# Altium integrated library WE-LHMI SMD Power Inductor.IntLib: 79 symbols
Pins are listed as number, name and electrical type; pins without a type are passive.

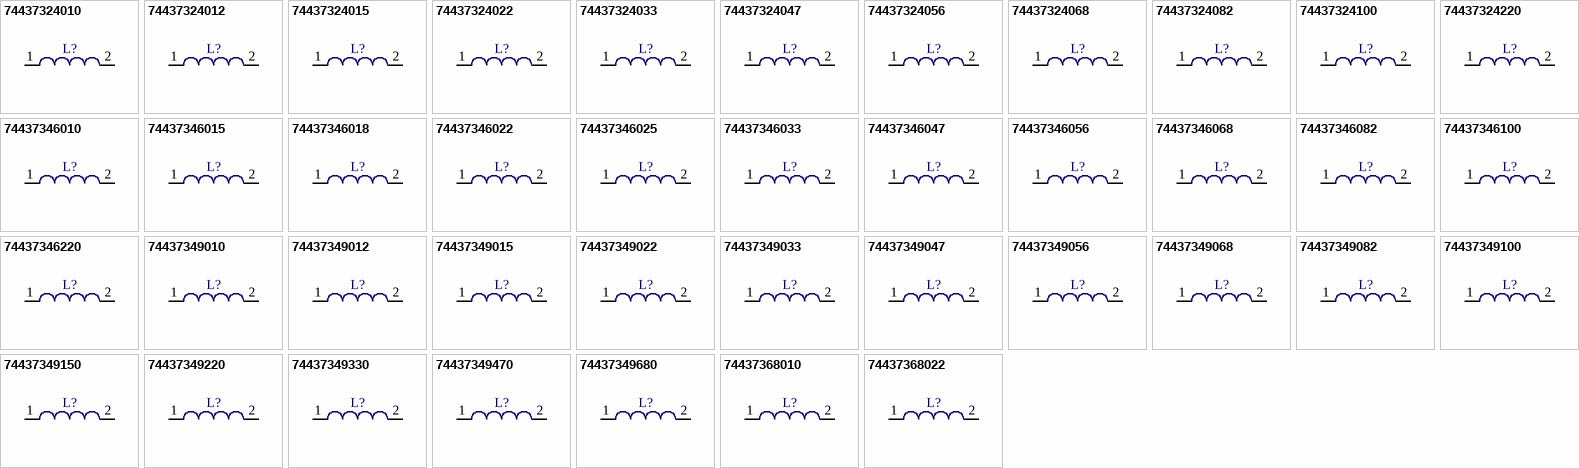
[diagram p0: symbols 74437324010 to 74437368022]

## 74437324010
designator L?
SMD Power Inductor WE-LHMI, L=1.0 µH; PartNumber: 74437324010; Inductance: 1.0 µH; PackageReference: WE-LHMI 4020; ComponentLink1Description: Manufacturer URL; ComponentLink1URL: http://www.we-online.com; ComponentLink2Description: Datasheet; ComponentLink2URL: http://katalog.we-online.de/kataloge/eisos/media/pdf/74437324010.pdf
footprint WE-LHMI 4020 (SMD Inductor, 2-Leads, Body 4.45 x 4.06mm)
pins: 1, 2

## 74437324012
designator L?
SMD Power Inductor WE-LHMI, L=1.2 µH; PartNumber: 74437324012; Inductance: 1.2 µH; PackageReference: WE-LHMI 4020; ComponentLink1Description: Manufacturer URL; ComponentLink1URL: http://www.we-online.com; ComponentLink2Description: Datasheet; ComponentLink2URL: http://katalog.we-online.de/kataloge/eisos/media/pdf/74437324012.pdf
footprint WE-LHMI 4020 (SMD Inductor, 2-Leads, Body 4.45 x 4.06mm)
pins: 1, 2

## 74437324015
designator L?
SMD Power Inductor WE-LHMI, L=1.5 µH; PartNumber: 74437324015; Inductance: 1.5 µH; PackageReference: WE-LHMI 4020; ComponentLink1Description: Manufacturer URL; ComponentLink1URL: http://www.we-online.com; ComponentLink2Description: Datasheet; ComponentLink2URL: http://katalog.we-online.de/kataloge/eisos/media/pdf/74437324015.pdf
footprint WE-LHMI 4020 (SMD Inductor, 2-Leads, Body 4.45 x 4.06mm)
pins: 1, 2

## 74437324022
designator L?
SMD Power Inductor WE-LHMI, L=2.2 µH; PartNumber: 74437324022; Inductance: 2.2 µH; PackageReference: WE-LHMI 4020; ComponentLink1Description: Manufacturer URL; ComponentLink1URL: http://www.we-online.com; ComponentLink2Description: Datasheet; ComponentLink2URL: http://katalog.we-online.de/kataloge/eisos/media/pdf/74437324022.pdf
footprint WE-LHMI 4020 (SMD Inductor, 2-Leads, Body 4.45 x 4.06mm)
pins: 1, 2

## 74437324033
designator L?
SMD Power Inductor WE-LHMI, L=3.3 µH; PartNumber: 74437324033; Inductance: 3.3 µH; PackageReference: WE-LHMI 4020; ComponentLink1Description: Manufacturer URL; ComponentLink1URL: http://www.we-online.com; ComponentLink2Description: Datasheet; ComponentLink2URL: http://katalog.we-online.de/kataloge/eisos/media/pdf/74437324033.pdf
footprint WE-LHMI 4020 (SMD Inductor, 2-Leads, Body 4.45 x 4.06mm)
pins: 1, 2

## 74437324047
designator L?
SMD Power Inductor WE-LHMI, L=4.7 µH; PartNumber: 74437324047; Inductance: 4.7 µH; PackageReference: WE-LHMI 4020; ComponentLink1Description: Manufacturer URL; ComponentLink1URL: http://www.we-online.com; ComponentLink2Description: Datasheet; ComponentLink2URL: http://katalog.we-online.de/kataloge/eisos/media/pdf/74437324047.pdf
footprint WE-LHMI 4020 (SMD Inductor, 2-Leads, Body 4.45 x 4.06mm)
pins: 1, 2

## 74437324056
designator L?
SMD Power Inductor WE-LHMI, L=5.6 µH; PartNumber: 74437324056; Inductance: 5.6 µH; PackageReference: WE-LHMI 4020; ComponentLink1Description: Manufacturer URL; ComponentLink1URL: http://www.we-online.com; ComponentLink2Description: Datasheet; ComponentLink2URL: http://katalog.we-online.de/kataloge/eisos/media/pdf/74437324056.pdf
footprint WE-LHMI 4020 (SMD Inductor, 2-Leads, Body 4.45 x 4.06mm)
pins: 1, 2

## 74437324068
designator L?
SMD Power Inductor WE-LHMI, L=6.8 µH; PartNumber: 74437324068; Inductance: 6.8 µH; PackageReference: WE-LHMI 4020; ComponentLink1Description: Manufacturer URL; ComponentLink1URL: http://www.we-online.com; ComponentLink2Description: Datasheet; ComponentLink2URL: http://katalog.we-online.de/kataloge/eisos/media/pdf/74437324068.pdf
footprint WE-LHMI 4020 (SMD Inductor, 2-Leads, Body 4.45 x 4.06mm)
pins: 1, 2

## 74437324082
designator L?
SMD Power Inductor WE-LHMI, L=8.2 µH; PartNumber: 74437324082; Inductance: 8.2 µH; PackageReference: WE-LHMI 4020; ComponentLink1Description: Manufacturer URL; ComponentLink1URL: http://www.we-online.com; ComponentLink2Description: Datasheet; ComponentLink2URL: http://katalog.we-online.de/kataloge/eisos/media/pdf/74437324082.pdf
footprint WE-LHMI 4020 (SMD Inductor, 2-Leads, Body 4.45 x 4.06mm)
pins: 1, 2

## 74437324100
designator L?
SMD Power Inductor WE-LHMI, L=10 µH; PartNumber: 74437324100; Inductance: 10 µH; PackageReference: WE-LHMI 4020; ComponentLink1Description: Manufacturer URL; ComponentLink1URL: http://www.we-online.com; ComponentLink2Description: Datasheet; ComponentLink2URL: http://katalog.we-online.de/kataloge/eisos/media/pdf/74437324100.pdf
footprint WE-LHMI 4020 (SMD Inductor, 2-Leads, Body 4.45 x 4.06mm)
pins: 1, 2

## 74437324220
designator L?
SMD Power Inductor WE-LHMI, L=22 µH; PartNumber: 74437324220; Inductance: 22 µH; PackageReference: WE-LHMI 4020; ComponentLink1Description: Manufacturer URL; ComponentLink1URL: http://www.we-online.com; ComponentLink2Description: Datasheet; ComponentLink2URL: http://katalog.we-online.de/kataloge/eisos/media/pdf/74437324220.pdf
footprint WE-LHMI 4020 (SMD Inductor, 2-Leads, Body 4.45 x 4.06mm)
pins: 1, 2

## 74437346010
designator L?
SMD Power Inductor WE-LHMI, L=1.0 µH; PartNumber: 74437346010; Inductance: 1.0 µH; PackageReference: WE-LHMI 7030; ComponentLink1Description: Manufacturer URL; ComponentLink1URL: http://www.we-online.com; ComponentLink2Description: Datasheet; ComponentLink2URL: http://katalog.we-online.de/kataloge/eisos/media/pdf/74437346010.pdf
footprint WE-LHMI 7030 (SMD Inductor, 2-Leads, Body 7.3 x 6.6mm)
pins: 1, 2

## 74437346015
designator L?
SMD Power Inductor WE-LHMI, L=1.5 µH; PartNumber: 74437346015; Inductance: 1.5 µH; PackageReference: WE-LHMI 7030; ComponentLink1Description: Manufacturer URL; ComponentLink1URL: http://www.we-online.com; ComponentLink2Description: Datasheet; ComponentLink2URL: http://katalog.we-online.de/kataloge/eisos/media/pdf/74437346015.pdf
footprint WE-LHMI 7030 (SMD Inductor, 2-Leads, Body 7.3 x 6.6mm)
pins: 1, 2

## 74437346018
designator L?
SMD Power Inductor WE-LHMI, L=1.8 µH; PartNumber: 74437346018; Inductance: 1.8 µH; PackageReference: WE-LHMI 7030; ComponentLink1Description: Manufacturer URL; ComponentLink1URL: http://www.we-online.com; ComponentLink2Description: Datasheet; ComponentLink2URL: http://katalog.we-online.de/kataloge/eisos/media/pdf/74437346018.pdf
footprint WE-LHMI 7030 (SMD Inductor, 2-Leads, Body 7.3 x 6.6mm)
pins: 1, 2

## 74437346022
designator L?
SMD Power Inductor WE-LHMI, L=2.2 µH; PartNumber: 74437346022; Inductance: 2.2 µH; PackageReference: WE-LHMI 7030; ComponentLink1Description: Manufacturer URL; ComponentLink1URL: http://www.we-online.com; ComponentLink2Description: Datasheet; ComponentLink2URL: http://katalog.we-online.de/kataloge/eisos/media/pdf/74437346022.pdf
footprint WE-LHMI 7030 (SMD Inductor, 2-Leads, Body 7.3 x 6.6mm)
pins: 1, 2

## 74437346025
designator L?
SMD Power Inductor WE-LHMI, L=2.5 µH; PartNumber: 74437346025; Inductance: 2.5 µH; PackageReference: WE-LHMI 7030; ComponentLink1Description: Manufacturer URL; ComponentLink1URL: http://www.we-online.com; ComponentLink2Description: Datasheet; ComponentLink2URL: http://katalog.we-online.de/kataloge/eisos/media/pdf/74437346025.pdf
footprint WE-LHMI 7030 (SMD Inductor, 2-Leads, Body 7.3 x 6.6mm)
pins: 1, 2

## 74437346033
designator L?
SMD Power Inductor WE-LHMI, L=3.3 µH; PartNumber: 74437346033; Inductance: 3.3 µH; PackageReference: WE-LHMI 7030; ComponentLink1Description: Manufacturer URL; ComponentLink1URL: http://www.we-online.com; ComponentLink2Description: Datasheet; ComponentLink2URL: http://katalog.we-online.de/kataloge/eisos/media/pdf/74437346033.pdf
footprint WE-LHMI 7030 (SMD Inductor, 2-Leads, Body 7.3 x 6.6mm)
pins: 1, 2

## 74437346047
designator L?
SMD Power Inductor WE-LHMI, L=4.7 µH; PartNumber: 74437346047; Inductance: 3.3 µH; PackageReference: WE-LHMI 7030; ComponentLink1Description: Manufacturer URL; ComponentLink1URL: http://www.we-online.com; ComponentLink2Description: Datasheet; ComponentLink2URL: http://katalog.we-online.de/kataloge/eisos/media/pdf/74437346047.pdf
footprint WE-LHMI 7030 (SMD Inductor, 2-Leads, Body 7.3 x 6.6mm)
pins: 1, 2

## 74437346056
designator L?
SMD Power Inductor WE-LHMI, L=5.6 µH; PartNumber: 74437346056; Inductance: 5.6 µH; PackageReference: WE-LHMI 7030; ComponentLink1Description: Manufacturer URL; ComponentLink1URL: http://www.we-online.com; ComponentLink2Description: Datasheet; ComponentLink2URL: http://katalog.we-online.de/kataloge/eisos/media/pdf/74437346056.pdf
footprint WE-LHMI 7030 (SMD Inductor, 2-Leads, Body 7.3 x 6.6mm)
pins: 1, 2

## 74437346068
designator L?
SMD Power Inductor WE-LHMI, L=6.8 µH; PartNumber: 74437346068; Inductance: 6.8 µH; PackageReference: WE-LHMI 7030; ComponentLink1Description: Manufacturer URL; ComponentLink1URL: http://www.we-online.com; ComponentLink2Description: Datasheet; ComponentLink2URL: http://katalog.we-online.de/kataloge/eisos/media/pdf/74437346068.pdf
footprint WE-LHMI 7030 (SMD Inductor, 2-Leads, Body 7.3 x 6.6mm)
pins: 1, 2

## 74437346082
designator L?
SMD Power Inductor WE-LHMI, L=8.2 µH; PartNumber: 74437346082; Inductance: 8.2 µH; PackageReference: WE-LHMI 7030; ComponentLink1Description: Manufacturer URL; ComponentLink1URL: http://www.we-online.com; ComponentLink2Description: Datasheet; ComponentLink2URL: http://katalog.we-online.de/kataloge/eisos/media/pdf/74437346082.pdf
footprint WE-LHMI 7030 (SMD Inductor, 2-Leads, Body 7.3 x 6.6mm)
pins: 1, 2

## 74437346100
designator L?
SMD Power Inductor WE-LHMI, L=10 µH; PartNumber: 74437346100; Inductance: 10 µH; PackageReference: WE-LHMI 7030; ComponentLink1Description: Manufacturer URL; ComponentLink1URL: http://www.we-online.com; ComponentLink2Description: Datasheet; ComponentLink2URL: http://katalog.we-online.de/kataloge/eisos/media/pdf/74437346100.pdf
footprint WE-LHMI 7030 (SMD Inductor, 2-Leads, Body 7.3 x 6.6mm)
pins: 1, 2

## 74437346220
designator L?
SMD Power Inductor WE-LHMI, L=22 µH; PartNumber: 74437346220; Inductance: 22 µH; PackageReference: WE-LHMI 7030; ComponentLink1Description: Manufacturer URL; ComponentLink1URL: http://www.we-online.com; ComponentLink2Description: Datasheet; ComponentLink2URL: http://katalog.we-online.de/kataloge/eisos/media/pdf/74437346220.pdf
footprint WE-LHMI 7030 (SMD Inductor, 2-Leads, Body 7.3 x 6.6mm)
pins: 1, 2

## 74437349010
designator L?
SMD Power Inductor WE-LHMI, L=1.0 µH; PartNumber: 74437349010; Inductance: 1.0 µH; PackageReference: WE-LHMI 7050; ComponentLink1Description: Manufacturer URL; ComponentLink1URL: http://www.we-online.com; ComponentLink2Description: Datasheet; ComponentLink2URL: http://katalog.we-online.de/kataloge/eisos/media/pdf/74437349010.pdf
footprint WE-LHMI 7050 (SMD Inductor, 2-Leads, Body 7.3 x 6.6mm)
pins: 1, 2

## 74437349012
designator L?
SMD Power Inductor WE-LHMI, L=1.2 µH; PartNumber: 74437349012; Inductance: 1.2 µH; PackageReference: WE-LHMI 7050; ComponentLink1Description: Manufacturer URL; ComponentLink1URL: http://www.we-online.com; ComponentLink2Description: Datasheet; ComponentLink2URL: http://katalog.we-online.de/kataloge/eisos/media/pdf/74437349012.pdf
footprint WE-LHMI 7050 (SMD Inductor, 2-Leads, Body 7.3 x 6.6mm)
pins: 1, 2

## 74437349015
designator L?
SMD Power Inductor WE-LHMI, L=1.5 µH; PartNumber: 74437349015; Inductance: 1.5 µH; PackageReference: WE-LHMI 7050; ComponentLink1Description: Manufacturer URL; ComponentLink1URL: http://www.we-online.com; ComponentLink2Description: Datasheet; ComponentLink2URL: http://katalog.we-online.de/kataloge/eisos/media/pdf/74437349015.pdf
footprint WE-LHMI 7050 (SMD Inductor, 2-Leads, Body 7.3 x 6.6mm)
pins: 1, 2

## 74437349022
designator L?
SMD Power Inductor WE-LHMI, L=2.2 µH; PartNumber: 74437349022; Inductance: 2.2 µH; PackageReference: WE-LHMI 7050; ComponentLink1Description: Manufacturer URL; ComponentLink1URL: http://www.we-online.com; ComponentLink2Description: Datasheet; ComponentLink2URL: http://katalog.we-online.de/kataloge/eisos/media/pdf/74437349022.pdf
footprint WE-LHMI 7050 (SMD Inductor, 2-Leads, Body 7.3 x 6.6mm)
pins: 1, 2

## 74437349033
designator L?
SMD Power Inductor WE-LHMI, L=3.3 µH; PartNumber: 74437349033; Inductance: 3.3 µH; PackageReference: WE-LHMI 7050; ComponentLink1Description: Manufacturer URL; ComponentLink1URL: http://www.we-online.com; ComponentLink2Description: Datasheet; ComponentLink2URL: http://katalog.we-online.de/kataloge/eisos/media/pdf/74437349033.pdf
footprint WE-LHMI 7050 (SMD Inductor, 2-Leads, Body 7.3 x 6.6mm)
pins: 1, 2

## 74437349047
designator L?
SMD Power Inductor WE-LHMI, L=4.7 µH; PartNumber: 74437349047; Inductance: 4.7 µH; PackageReference: WE-LHMI 7050; ComponentLink1Description: Manufacturer URL; ComponentLink1URL: http://www.we-online.com; ComponentLink2Description: Datasheet; ComponentLink2URL: http://katalog.we-online.de/kataloge/eisos/media/pdf/74437349047.pdf
footprint WE-LHMI 7050 (SMD Inductor, 2-Leads, Body 7.3 x 6.6mm)
pins: 1, 2

## 74437349056
designator L?
SMD Power Inductor WE-LHMI, L=5.6 µH; PartNumber: 74437349056; Inductance: 5.6 µH; PackageReference: WE-LHMI 7050; ComponentLink1Description: Manufacturer URL; ComponentLink1URL: http://www.we-online.com; ComponentLink2Description: Datasheet; ComponentLink2URL: http://katalog.we-online.de/kataloge/eisos/media/pdf/74437349056.pdf
footprint WE-LHMI 7050 (SMD Inductor, 2-Leads, Body 7.3 x 6.6mm)
pins: 1, 2

## 74437349068
designator L?
SMD Power Inductor WE-LHMI, L=6.8 µH; PartNumber: 74437349068; Inductance: 6.8 µH; PackageReference: WE-LHMI 7050; ComponentLink1Description: Manufacturer URL; ComponentLink1URL: http://www.we-online.com; ComponentLink2Description: Datasheet; ComponentLink2URL: http://katalog.we-online.de/kataloge/eisos/media/pdf/74437349068.pdf
footprint WE-LHMI 7050 (SMD Inductor, 2-Leads, Body 7.3 x 6.6mm)
pins: 1, 2

## 74437349082
designator L?
SMD Power Inductor WE-LHMI, L=8.2 µH; PartNumber: 74437349082; Inductance: 8.2 µH; PackageReference: WE-LHMI 7050; ComponentLink1Description: Manufacturer URL; ComponentLink1URL: http://www.we-online.com; ComponentLink2Description: Datasheet; ComponentLink2URL: http://katalog.we-online.de/kataloge/eisos/media/pdf/74437349082.pdf
footprint WE-LHMI 7050 (SMD Inductor, 2-Leads, Body 7.3 x 6.6mm)
pins: 1, 2

## 74437349100
designator L?
SMD Power Inductor WE-LHMI, L=10 µH; PartNumber: 74437349100; Inductance: 10 µH; PackageReference: WE-LHMI 7050; ComponentLink1Description: Manufacturer URL; ComponentLink1URL: http://www.we-online.com; ComponentLink2Description: Datasheet; ComponentLink2URL: http://katalog.we-online.de/kataloge/eisos/media/pdf/74437349100.pdf
footprint WE-LHMI 7050 (SMD Inductor, 2-Leads, Body 7.3 x 6.6mm)
pins: 1, 2

## 74437349150
designator L?
SMD Power Inductor WE-LHMI, L=15 µH; PartNumber: 74437349150; Inductance: 15 µH; PackageReference: WE-LHMI 7050; ComponentLink1Description: Manufacturer URL; ComponentLink1URL: http://www.we-online.com; ComponentLink2Description: Datasheet; ComponentLink2URL: http://katalog.we-online.de/kataloge/eisos/media/pdf/74437349150.pdf
footprint WE-LHMI 7050 (SMD Inductor, 2-Leads, Body 7.3 x 6.6mm)
pins: 1, 2

## 74437349220
designator L?
SMD Power Inductor WE-LHMI, L=22 µH; PartNumber: 74437349220; Inductance: 22 µH; PackageReference: WE-LHMI 7050; ComponentLink1Description: Manufacturer URL; ComponentLink1URL: http://www.we-online.com; ComponentLink2Description: Datasheet; ComponentLink2URL: http://katalog.we-online.de/kataloge/eisos/media/pdf/74437349220.pdf
footprint WE-LHMI 7050 (SMD Inductor, 2-Leads, Body 7.3 x 6.6mm)
pins: 1, 2

## 74437349330
designator L?
SMD Power Inductor WE-LHMI, L=33.0 µH; PartNumber: 74437349330; Inductance: 33.0 µH; PackageReference: WE-LHMI 7050; ComponentLink1Description: Manufacturer URL; ComponentLink1URL: http://www.we-online.com; ComponentLink2Description: Datasheet; ComponentLink2URL: http://katalog.we-online.de/kataloge/eisos/media/pdf/74437349330.pdf
footprint WE-LHMI 7050 (SMD Inductor, 2-Leads, Body 7.3 x 6.6mm)
pins: 1, 2

## 74437349470
designator L?
SMD Power Inductor WE-LHMI, L=47.0 µH; PartNumber: 74437349470; Inductance: 47.0 µH; PackageReference: WE-LHMI 7050; ComponentLink1Description: Manufacturer URL; ComponentLink1URL: http://www.we-online.com; ComponentLink2Description: Datasheet; ComponentLink2URL: http://katalog.we-online.de/kataloge/eisos/media/pdf/74437349470.pdf
footprint WE-LHMI 7050 (SMD Inductor, 2-Leads, Body 7.3 x 6.6mm)
pins: 1, 2

## 74437349680
designator L?
SMD Power Inductor WE-LHMI, L=68.0 µH; PartNumber: 74437349680; Inductance: 68.0 µH; PackageReference: WE-LHMI 7050; ComponentLink1Description: Manufacturer URL; ComponentLink1URL: http://www.we-online.com; ComponentLink2Description: Datasheet; ComponentLink2URL: http://katalog.we-online.de/kataloge/eisos/media/pdf/74437349680.pdf
footprint WE-LHMI 7050 (SMD Inductor, 2-Leads, Body 7.3 x 6.6mm)
pins: 1, 2

## 74437368010
designator L?
SMD Power Inductor WE-LHMI, L=1.0 µH; PartNumber: 74437368010; Inductance: 1.0 µH; PackageReference: WE-LHMI 1040; ComponentLink1Description: Manufacturer URL; ComponentLink1URL: http://www.we-online.com; ComponentLink2Description: Datasheet; ComponentLink2URL: http://katalog.we-online.de/kataloge/eisos/media/pdf/74437368010.pdf
footprint WE-LHMI 1040 (SMD Inductor, 2-Leads, Body 11 x 10mm)
pins: 1, 2

## 74437368022
designator L?
SMD Power Inductor WE-LHMI, L=2.2 µH; PartNumber: 74437368022; Inductance: 2.2 µH; PackageReference: WE-LHMI 1040; ComponentLink1Description: Manufacturer URL; ComponentLink1URL: http://www.we-online.com; ComponentLink2Description: Datasheet; ComponentLink2URL: http://katalog.we-online.de/kataloge/eisos/media/pdf/74437368022.pdf
footprint WE-LHMI 1040 (SMD Inductor, 2-Leads, Body 11 x 10mm)
pins: 1, 2

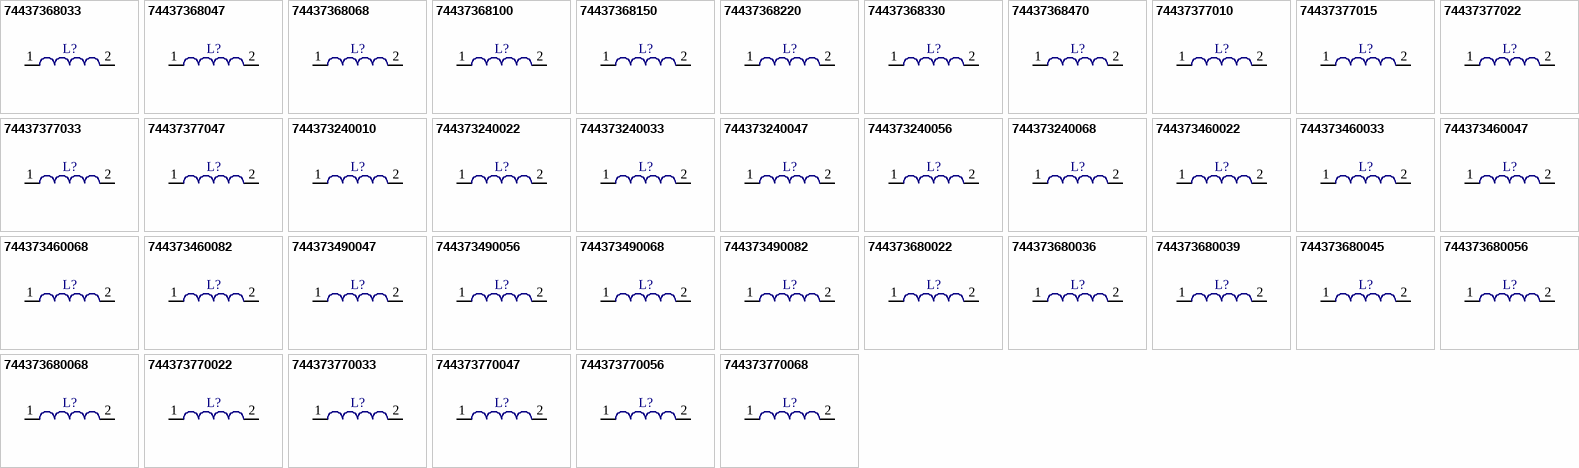
[diagram p1: symbols 74437368033 to 744373770068]

## 74437368033
designator L?
SMD Power Inductor WE-LHMI, L=3.3 µH; PartNumber: 74437368033; Inductance: 3.3 µH; PackageReference: WE-LHMI 1040; ComponentLink1Description: Manufacturer URL; ComponentLink1URL: http://www.we-online.com; ComponentLink2Description: Datasheet; ComponentLink2URL: http://katalog.we-online.de/kataloge/eisos/media/pdf/74437368033.pdf
footprint WE-LHMI 1040 (SMD Inductor, 2-Leads, Body 11 x 10mm)
pins: 1, 2

## 74437368047
designator L?
SMD Power Inductor WE-LHMI, L=4.7 µH; PartNumber: 74437368047; Inductance: 4.7 µH; PackageReference: WE-LHMI 1040; ComponentLink1Description: Manufacturer URL; ComponentLink1URL: http://www.we-online.com; ComponentLink2Description: Datasheet; ComponentLink2URL: http://katalog.we-online.de/kataloge/eisos/media/pdf/74437368047.pdf
footprint WE-LHMI 1040 (SMD Inductor, 2-Leads, Body 11 x 10mm)
pins: 1, 2

## 74437368068
designator L?
SMD Power Inductor WE-LHMI, L=6.8 µH; PartNumber: 74437368068; Inductance: 6.8 µH; PackageReference: WE-LHMI 1040; ComponentLink1Description: Manufacturer URL; ComponentLink1URL: http://www.we-online.com; ComponentLink2Description: Datasheet; ComponentLink2URL: http://katalog.we-online.de/kataloge/eisos/media/pdf/74437368068.pdf
footprint WE-LHMI 1040 (SMD Inductor, 2-Leads, Body 11 x 10mm)
pins: 1, 2

## 74437368100
designator L?
SMD Power Inductor WE-LHMI, L=10 µH; PartNumber: 74437368100; Inductance: 10 µH; PackageReference: WE-LHMI 1040; ComponentLink1Description: Manufacturer URL; ComponentLink1URL: http://www.we-online.com; ComponentLink2Description: Datasheet; ComponentLink2URL: http://katalog.we-online.de/kataloge/eisos/media/pdf/74437368100.pdf
footprint WE-LHMI 1040 (SMD Inductor, 2-Leads, Body 11 x 10mm)
pins: 1, 2

## 74437368150
designator L?
SMD Power Inductor WE-LHMI, L=15.0 µH; PartNumber: 74437368150; Inductance: 15.0 µH; PackageReference: WE-LHMI 1040; ComponentLink1Description: Manufacturer URL; ComponentLink1URL: http://www.we-online.com; ComponentLink2Description: Datasheet; ComponentLink2URL: http://katalog.we-online.de/kataloge/eisos/media/pdf/74437368150.pdf
footprint WE-LHMI 1040 (SMD Inductor, 2-Leads, Body 11 x 10mm)
pins: 1, 2

## 74437368220
designator L?
SMD Power Inductor WE-LHMI, L=22.0 µH; PartNumber: 74437368220; Inductance: 22.0 µH; PackageReference: WE-LHMI 1040; ComponentLink1Description: Manufacturer URL; ComponentLink1URL: http://www.we-online.com; ComponentLink2Description: Datasheet; ComponentLink2URL: http://katalog.we-online.de/kataloge/eisos/media/pdf/74437368220.pdf
footprint WE-LHMI 1040 (SMD Inductor, 2-Leads, Body 11 x 10mm)
pins: 1, 2

## 74437368330
designator L?
SMD Power Inductor WE-LHMI, L=33.0 µH; PartNumber: 74437368330; Inductance: 33.0 µH; PackageReference: WE-LHMI 1040; ComponentLink1Description: Manufacturer URL; ComponentLink1URL: http://www.we-online.com; ComponentLink2Description: Datasheet; ComponentLink2URL: http://katalog.we-online.de/kataloge/eisos/media/pdf/74437368330.pdf
footprint WE-LHMI 1040 (SMD Inductor, 2-Leads, Body 11 x 10mm)
pins: 1, 2

## 74437368470
designator L?
SMD Power Inductor WE-LHMI, L=47.0 µH; PartNumber: 74437368470; Inductance: 47.0 µH; PackageReference: WE-LHMI 1040; ComponentLink1Description: Manufacturer URL; ComponentLink1URL: http://www.we-online.com; ComponentLink2Description: Datasheet; ComponentLink2URL: http://katalog.we-online.de/kataloge/eisos/media/pdf/74437368470.pdf
footprint WE-LHMI 1040 (SMD Inductor, 2-Leads, Body 11 x 10mm)
pins: 1, 2

## 74437377010
designator L?
SMD Power Inductor WE-LHMI, L=1.0 µH; PartNumber: 74437377010; Inductance: 1.0 µH; PackageReference: WE-LHMI 1335; ComponentLink1Description: Manufacturer URL; ComponentLink1URL: http://www.we-online.com; ComponentLink2Description: Datasheet; ComponentLink2URL: http://katalog.we-online.de/kataloge/eisos/media/pdf/74437377010.pdf
footprint WE-LHMI 1335 (SMD Inductor, 2-Leads, Body 13.5 x 12.6mm)
pins: 1, 2

## 74437377015
designator L?
SMD Power Inductor WE-LHMI, L=1.5 µH; PartNumber: 74437377015; Inductance: 1.5 µH; PackageReference: WE-LHMI 1335; ComponentLink1Description: Manufacturer URL; ComponentLink1URL: http://www.we-online.com; ComponentLink2Description: Datasheet; ComponentLink2URL: http://katalog.we-online.de/kataloge/eisos/media/pdf/74437377015.pdf
footprint WE-LHMI 1335 (SMD Inductor, 2-Leads, Body 13.5 x 12.6mm)
pins: 1, 2

## 74437377022
designator L?
SMD Power Inductor WE-LHMI, L=2.2 µH; PartNumber: 74437377022; Inductance: 2.2 µH; PackageReference: WE-LHMI 1335; ComponentLink1Description: Manufacturer URL; ComponentLink1URL: http://www.we-online.com; ComponentLink2Description: Datasheet; ComponentLink2URL: http://katalog.we-online.de/kataloge/eisos/media/pdf/74437377022.pdf
footprint WE-LHMI 1335 (SMD Inductor, 2-Leads, Body 13.5 x 12.6mm)
pins: 1, 2

## 74437377033
designator L?
SMD Power Inductor WE-LHMI, L=3.3 µH; PartNumber: 74437377033; Inductance: 3.3 µH; PackageReference: WE-LHMI 1335; ComponentLink1Description: Manufacturer URL; ComponentLink1URL: http://www.we-online.com; ComponentLink2Description: Datasheet; ComponentLink2URL: http://katalog.we-online.de/kataloge/eisos/media/pdf/74437377033.pdf
footprint WE-LHMI 1335 (SMD Inductor, 2-Leads, Body 13.5 x 12.6mm)
pins: 1, 2

## 74437377047
designator L?
SMD Power Inductor WE-LHMI, L=4.7 µH; PartNumber: 74437377047; Inductance: 4.7 µH; PackageReference: WE-LHMI 1335; ComponentLink1Description: Manufacturer URL; ComponentLink1URL: http://www.we-online.com; ComponentLink2Description: Datasheet; ComponentLink2URL: http://katalog.we-online.de/kataloge/eisos/media/pdf/74437377047.pdf
footprint WE-LHMI 1335 (SMD Inductor, 2-Leads, Body 13.5 x 12.6mm)
pins: 1, 2

## 744373240010
designator L?
SMD Power Inductor WE-LHMI, L=0.10 µH; PartNumber: 744373240010; Inductance: 0.10 µH; PackageReference: WE-LHMI 4020; ComponentLink1Description: Manufacturer URL; ComponentLink1URL: http://www.we-online.com; ComponentLink2Description: Datasheet; ComponentLink2URL: http://katalog.we-online.de/kataloge/eisos/media/pdf/744373240010.pdf
footprint WE-LHMI 4020 (SMD Inductor, 2-Leads, Body 4.45 x 4.06mm)
pins: 1, 2

## 744373240022
designator L?
SMD Power Inductor WE-LHMI, L=0.22 µH; PartNumber: 744373240022; Inductance: 0.22 µH; PackageReference: WE-LHMI 4020; ComponentLink1Description: Manufacturer URL; ComponentLink1URL: http://www.we-online.com; ComponentLink2Description: Datasheet; ComponentLink2URL: http://katalog.we-online.de/kataloge/eisos/media/pdf/744373240022.pdf
footprint WE-LHMI 4020 (SMD Inductor, 2-Leads, Body 4.45 x 4.06mm)
pins: 1, 2

## 744373240033
designator L?
SMD Power Inductor WE-LHMI, L=0.33 µH; PartNumber: 744373240033; Inductance: 0.33 µH; PackageReference: WE-LHMI 4020; ComponentLink1Description: Manufacturer URL; ComponentLink1URL: http://www.we-online.com; ComponentLink2Description: Datasheet; ComponentLink2URL: http://katalog.we-online.de/kataloge/eisos/media/pdf/744373240033.pdf
footprint WE-LHMI 4020 (SMD Inductor, 2-Leads, Body 4.45 x 4.06mm)
pins: 1, 2

## 744373240047
designator L?
SMD Power Inductor WE-LHMI, L=0.47 µH; PartNumber: 744373240047; Inductance: 0.47 µH; PackageReference: WE-LHMI 4020; ComponentLink1Description: Manufacturer URL; ComponentLink1URL: http://www.we-online.com; ComponentLink2Description: Datasheet; ComponentLink2URL: http://katalog.we-online.de/kataloge/eisos/media/pdf/744373240047.pdf
footprint WE-LHMI 4020 (SMD Inductor, 2-Leads, Body 4.45 x 4.06mm)
pins: 1, 2

## 744373240056
designator L?
SMD Power Inductor WE-LHMI, L=0.56 µH; PartNumber: 744373240056; Inductance: 0.56 µH; PackageReference: WE-LHMI 4020; ComponentLink1Description: Manufacturer URL; ComponentLink1URL: http://www.we-online.com; ComponentLink2Description: Datasheet; ComponentLink2URL: http://katalog.we-online.de/kataloge/eisos/media/pdf/744373240056.pdf
footprint WE-LHMI 4020 (SMD Inductor, 2-Leads, Body 4.45 x 4.06mm)
pins: 1, 2

## 744373240068
designator L?
SMD Power Inductor WE-LHMI, L=0.68 µH; PartNumber: 744373240068; Inductance: 0.68 µH; PackageReference: WE-LHMI 4020; ComponentLink1Description: Manufacturer URL; ComponentLink1URL: http://www.we-online.com; ComponentLink2Description: Datasheet; ComponentLink2URL: http://katalog.we-online.de/kataloge/eisos/media/pdf/744373240068.pdf
footprint WE-LHMI 4020 (SMD Inductor, 2-Leads, Body 4.45 x 4.06mm)
pins: 1, 2

## 744373460022
designator L?
SMD Power Inductor WE-LHMI, L=0.22 µH; PartNumber: 744373460022; Inductance: 0.22 µH; PackageReference: WE-LHMI 7030; ComponentLink1Description: Manufacturer URL; ComponentLink1URL: http://www.we-online.com; ComponentLink2Description: Datasheet; ComponentLink2URL: http://katalog.we-online.de/kataloge/eisos/media/pdf/744373460022.pdf
footprint WE-LHMI 7030 (SMD Inductor, 2-Leads, Body 7.3 x 6.6mm)
pins: 1, 2

## 744373460033
designator L?
SMD Power Inductor WE-LHMI, L=0.33 µH; PartNumber: 744373460033; Inductance: 0.33 µH; PackageReference: WE-LHMI 7030; ComponentLink1Description: Manufacturer URL; ComponentLink1URL: http://www.we-online.com; ComponentLink2Description: Datasheet; ComponentLink2URL: http://katalog.we-online.de/kataloge/eisos/media/pdf/744373460033.pdf
footprint WE-LHMI 7030 (SMD Inductor, 2-Leads, Body 7.3 x 6.6mm)
pins: 1, 2

## 744373460047
designator L?
SMD Power Inductor WE-LHMI, L=0.47 µH; PartNumber: 744373460047; Inductance: 0.47 µH; PackageReference: WE-LHMI 7030; ComponentLink1Description: Manufacturer URL; ComponentLink1URL: http://www.we-online.com; ComponentLink2Description: Datasheet; ComponentLink2URL: http://katalog.we-online.de/kataloge/eisos/media/pdf/744373460047.pdf
footprint WE-LHMI 7030 (SMD Inductor, 2-Leads, Body 7.3 x 6.6mm)
pins: 1, 2

## 744373460068
designator L?
SMD Power Inductor WE-LHMI, L=0.68 µH; PartNumber: 744373460068; Inductance: 0.68 µH; PackageReference: WE-LHMI 7030; ComponentLink1Description: Manufacturer URL; ComponentLink1URL: http://www.we-online.com; ComponentLink2Description: Datasheet; ComponentLink2URL: http://katalog.we-online.de/kataloge/eisos/media/pdf/744373460068.pdf
footprint WE-LHMI 7030 (SMD Inductor, 2-Leads, Body 7.3 x 6.6mm)
pins: 1, 2

## 744373460082
designator L?
SMD Power Inductor WE-LHMI, L=0.82 µH; PartNumber: 744373460082; Inductance: 0.82 µH; PackageReference: WE-LHMI 7030; ComponentLink1Description: Manufacturer URL; ComponentLink1URL: http://www.we-online.com; ComponentLink2Description: Datasheet; ComponentLink2URL: http://katalog.we-online.de/kataloge/eisos/media/pdf/744373460082.pdf
footprint WE-LHMI 7030 (SMD Inductor, 2-Leads, Body 7.3 x 6.6mm)
pins: 1, 2

## 744373490047
designator L?
SMD Power Inductor WE-LHMI, L=0.47 µH; PartNumber: 744373490047; Inductance: 0.47 µH; PackageReference: WE-LHMI 7050; ComponentLink1Description: Manufacturer URL; ComponentLink1URL: http://www.we-online.com; ComponentLink2Description: Datasheet; ComponentLink2URL: http://katalog.we-online.de/kataloge/eisos/media/pdf/744373490047.pdf
footprint WE-LHMI 7050 (SMD Inductor, 2-Leads, Body 7.3 x 6.6mm)
pins: 1, 2

## 744373490056
designator L?
SMD Power Inductor WE-LHMI, L=0.56 µH; PartNumber: 744373490056; Inductance: 0.56 µH; PackageReference: WE-LHMI 7050; ComponentLink1Description: Manufacturer URL; ComponentLink1URL: http://www.we-online.com; ComponentLink2Description: Datasheet; ComponentLink2URL: http://katalog.we-online.de/kataloge/eisos/media/pdf/744373490056.pdf
footprint WE-LHMI 7050 (SMD Inductor, 2-Leads, Body 7.3 x 6.6mm)
pins: 1, 2

## 744373490068
designator L?
SMD Power Inductor WE-LHMI, L=0.68 µH; PartNumber: 744373490068; Inductance: 0.68 µH; PackageReference: WE-LHMI 7050; ComponentLink1Description: Manufacturer URL; ComponentLink1URL: http://www.we-online.com; ComponentLink2Description: Datasheet; ComponentLink2URL: http://katalog.we-online.de/kataloge/eisos/media/pdf/744373490068.pdf
footprint WE-LHMI 7050 (SMD Inductor, 2-Leads, Body 7.3 x 6.6mm)
pins: 1, 2

## 744373490082
designator L?
SMD Power Inductor WE-LHMI, L=0.82 µH; PartNumber: 744373490082; Inductance: 0.82 µH; PackageReference: WE-LHMI 7050; ComponentLink1Description: Manufacturer URL; ComponentLink1URL: http://www.we-online.com; ComponentLink2Description: Datasheet; ComponentLink2URL: http://katalog.we-online.de/kataloge/eisos/media/pdf/744373490082.pdf
footprint WE-LHMI 7050 (SMD Inductor, 2-Leads, Body 7.3 x 6.6mm)
pins: 1, 2

## 744373680022
designator L?
SMD Power Inductor WE-LHMI, L=0.22 µH; PartNumber: 744373680022; Inductance: 0.22 µH; PackageReference: WE-LHMI 1040; ComponentLink1Description: Manufacturer URL; ComponentLink1URL: http://www.we-online.com; ComponentLink2Description: Datasheet; ComponentLink2URL: http://katalog.we-online.de/kataloge/eisos/media/pdf/744373680022.pdf
footprint WE-LHMI 1040 (SMD Inductor, 2-Leads, Body 11 x 10mm)
pins: 1, 2

## 744373680036
designator L?
SMD Power Inductor WE-LHMI, L=0.36 µH; PartNumber: 744373680036; Inductance: 0.36 µH; PackageReference: WE-LHMI 1040; ComponentLink1Description: Manufacturer URL; ComponentLink1URL: http://www.we-online.com; ComponentLink2Description: Datasheet; ComponentLink2URL: http://katalog.we-online.de/kataloge/eisos/media/pdf/744373680036.pdf
footprint WE-LHMI 1040 (SMD Inductor, 2-Leads, Body 11 x 10mm)
pins: 1, 2

## 744373680039
designator L?
SMD Power Inductor WE-LHMI, L=0.39 µH; PartNumber: 744373680039; Inductance: 0.39 µH; PackageReference: WE-LHMI 1040; ComponentLink1Description: Manufacturer URL; ComponentLink1URL: http://www.we-online.com; ComponentLink2Description: Datasheet; ComponentLink2URL: http://katalog.we-online.de/kataloge/eisos/media/pdf/744373680039.pdf
footprint WE-LHMI 1040 (SMD Inductor, 2-Leads, Body 11 x 10mm)
pins: 1, 2

## 744373680045
designator L?
SMD Power Inductor WE-LHMI, L=0.45 µH; PartNumber: 744373680045; Inductance: 0.45 µH; PackageReference: WE-LHMI 1040; ComponentLink1Description: Manufacturer URL; ComponentLink1URL: http://www.we-online.com; ComponentLink2Description: Datasheet; ComponentLink2URL: http://katalog.we-online.de/kataloge/eisos/media/pdf/744373680045.pdf
footprint WE-LHMI 1040 (SMD Inductor, 2-Leads, Body 11 x 10mm)
pins: 1, 2

## 744373680056
designator L?
SMD Power Inductor WE-LHMI, L=0.56 µH; PartNumber: 744373680056; Inductance: 0.56 µH; PackageReference: WE-LHMI 1040; ComponentLink1Description: Manufacturer URL; ComponentLink1URL: http://www.we-online.com; ComponentLink2Description: Datasheet; ComponentLink2URL: http://katalog.we-online.de/kataloge/eisos/media/pdf/744373680056.pdf
footprint WE-LHMI 1040 (SMD Inductor, 2-Leads, Body 11 x 10mm)
pins: 1, 2

## 744373680068
designator L?
SMD Power Inductor WE-LHMI, L=0.68 µH; PartNumber: 744373680068; Inductance: 0.68 µH; PackageReference: WE-LHMI 1040; ComponentLink1Description: Manufacturer URL; ComponentLink1URL: http://www.we-online.com; ComponentLink2Description: Datasheet; ComponentLink2URL: http://katalog.we-online.de/kataloge/eisos/media/pdf/744373680068.pdf
footprint WE-LHMI 1040 (SMD Inductor, 2-Leads, Body 11 x 10mm)
pins: 1, 2

## 744373770022
designator L?
SMD Power Inductor WE-LHMI, L=0.22 µH; PartNumber: 744373770022; Inductance: 0.22 µH; PackageReference: WE-LHMI 1335; ComponentLink1Description: Manufacturer URL; ComponentLink1URL: http://www.we-online.com; ComponentLink2Description: Datasheet; ComponentLink2URL: http://katalog.we-online.de/kataloge/eisos/media/pdf/744373770022.pdf
footprint WE-LHMI 1335 (SMD Inductor, 2-Leads, Body 13.5 x 12.6mm)
pins: 1, 2

## 744373770033
designator L?
SMD Power Inductor WE-LHMI, L=0.33 µH; PartNumber: 744373770033; Inductance: 0.33 µH; PackageReference: WE-LHMI 1335; ComponentLink1Description: Manufacturer URL; ComponentLink1URL: http://www.we-online.com; ComponentLink2Description: Datasheet; ComponentLink2URL: http://katalog.we-online.de/kataloge/eisos/media/pdf/744373770033.pdf
footprint WE-LHMI 1335 (SMD Inductor, 2-Leads, Body 13.5 x 12.6mm)
pins: 1, 2

## 744373770047
designator L?
SMD Power Inductor WE-LHMI, L=0.47 µH; PartNumber: 744373770047; Inductance: 0.47 µH; PackageReference: WE-LHMI 1335; ComponentLink1Description: Manufacturer URL; ComponentLink1URL: http://www.we-online.com; ComponentLink2Description: Datasheet; ComponentLink2URL: http://katalog.we-online.de/kataloge/eisos/media/pdf/744373770047.pdf
footprint WE-LHMI 1335 (SMD Inductor, 2-Leads, Body 13.5 x 12.6mm)
pins: 1, 2

## 744373770056
designator L?
SMD Power Inductor WE-LHMI, L=0.56 µH; PartNumber: 744373770056; Inductance: 0.56 µH; PackageReference: WE-LHMI 1335; ComponentLink1Description: Manufacturer URL; ComponentLink1URL: http://www.we-online.com; ComponentLink2Description: Datasheet; ComponentLink2URL: http://katalog.we-online.de/kataloge/eisos/media/pdf/744373770056.pdf
footprint WE-LHMI 1335 (SMD Inductor, 2-Leads, Body 13.5 x 12.6mm)
pins: 1, 2

## 744373770068
designator L?
SMD Power Inductor WE-LHMI, L=0.68 µH; PartNumber: 744373770068; Inductance: 0.68 µH; PackageReference: WE-LHMI 1335; ComponentLink1Description: Manufacturer URL; ComponentLink1URL: http://www.we-online.com; ComponentLink2Description: Datasheet; ComponentLink2URL: http://katalog.we-online.de/kataloge/eisos/media/pdf/744373770068.pdf
footprint WE-LHMI 1335 (SMD Inductor, 2-Leads, Body 13.5 x 12.6mm)
pins: 1, 2